# Altium footprint library Resistor.PcbLib: 19 footprints (part 1 of 2)
Each footprint in its own frame and in the unit in brackets; x right, y up, seen from the top. Pads: shape width x height; smd on the part's side, far side on the other; paste and mask are expansions set on the pad; w line width, h text height; cw(c..) or ccw(c..) is an arc to the next point about the centre after c.
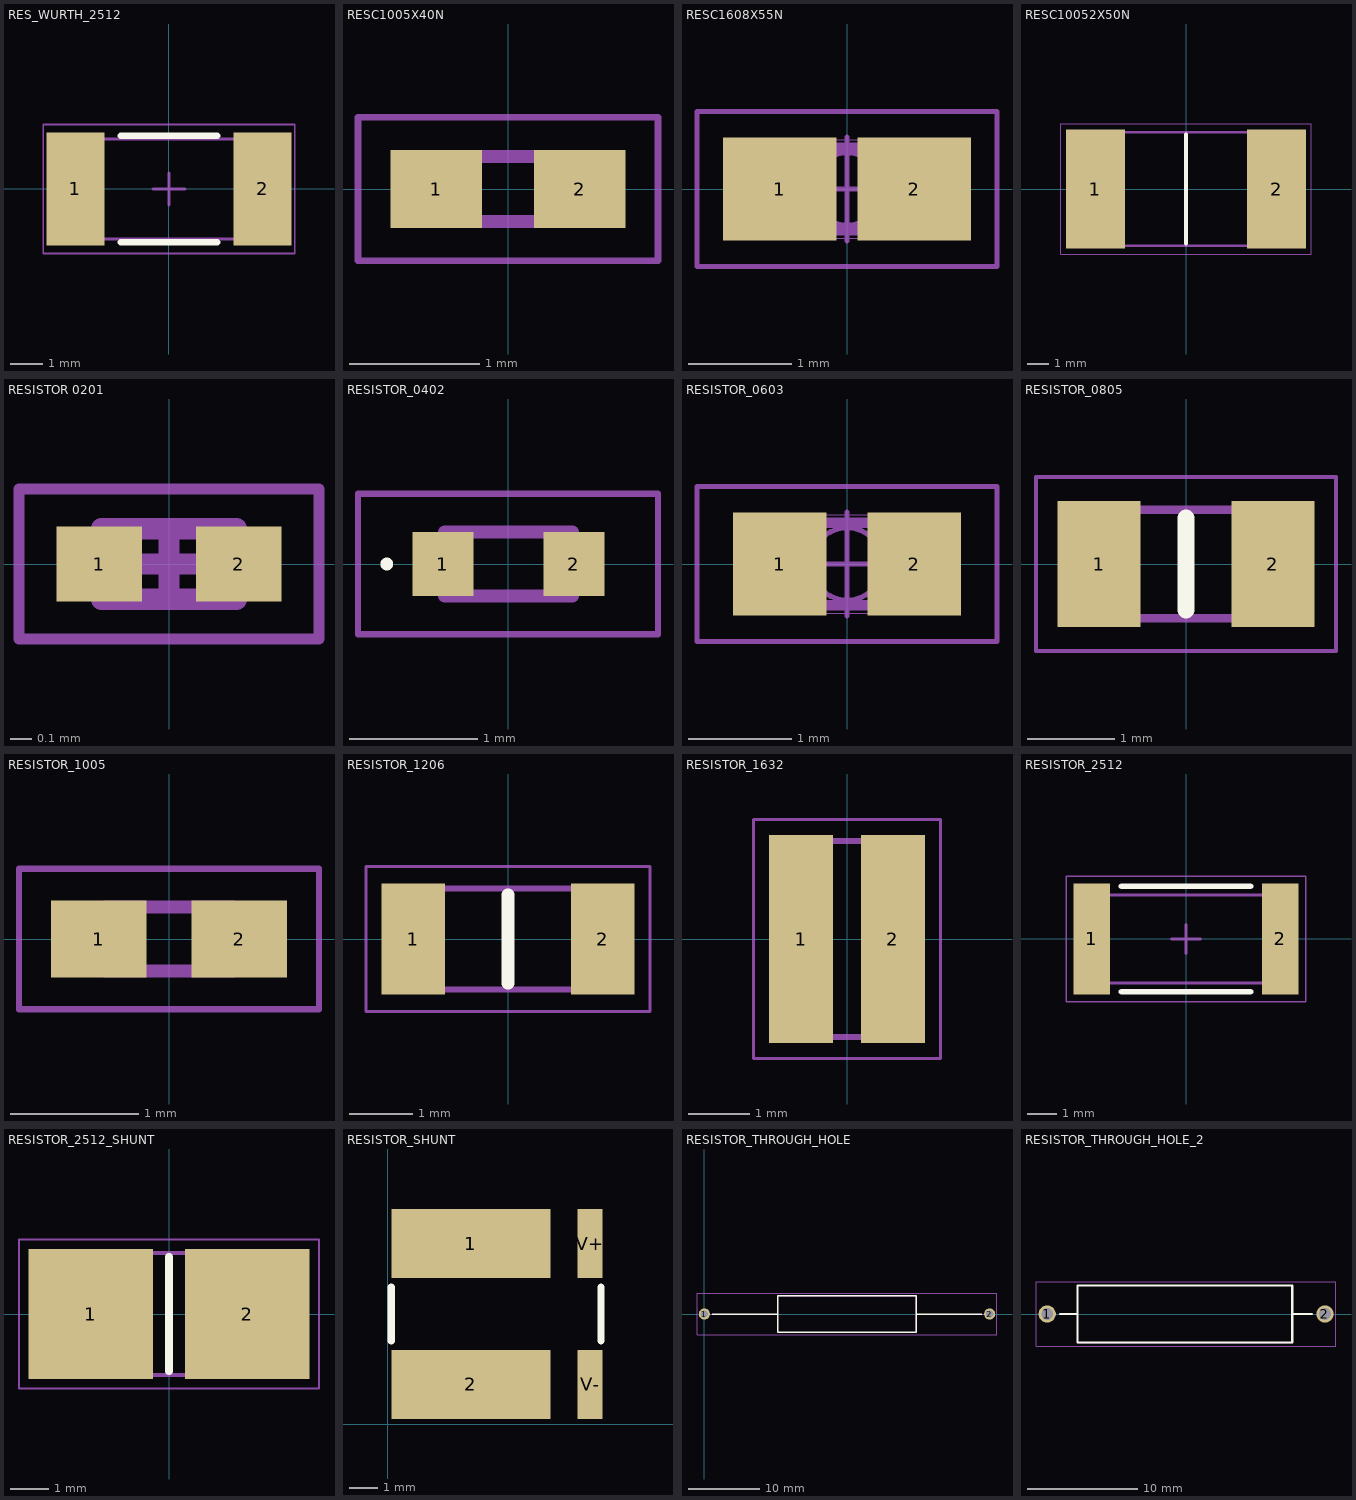
[diagram p0: the footprints below, top view; thin cyan lines are the x and y axes]

## RES_WURTH_2512 [mm] "Chip Resistor, 2-Leads, Body 6,30x3,10mm, IPC Medium Density"
height 0.5
pads (2):
  rect 1.8x3.5 smd: 1(-2.9,0) 2(2.9,0)
Top Overlay:
  lines w0.2: -1.5,-1.65 1.5,-1.65 ; -1.5,1.65 1.5,1.65
Mechanical 13:
  lines w0.1: -3.175,-1.55 3.175,-1.55 3.175,1.55 -3.175,1.55 -3.175,-1.55
Mechanical 15:
  lines w0.05: -3.9,-2 3.9,-2 3.9,2 -3.9,2 -3.9,-2
  lines w0.1: -0.5,0 0.5,0 ; 0,-0.5 0,0.5
3D body "STP_580070763010+%28rev1%29.stp": height 0.35, standoff 0, extent -3.15,-1.55 3.15,1.55

## RESC1005X40N [mm]
pads (2):
  rect 0.7x0.6 smd: 1(-0.55,0) 2(0.55,0)
Mechanical 13:
  lines w0.1: -0.5,-0.25 0.5,-0.25 0.5,0.25 -0.5,0.25 -0.5,-0.25
Mechanical 15:
  lines w0.05: -1.15,-0.55 1.15,-0.55 1.15,0.55 -1.15,0.55 -1.15,-0.55
3D body "CRCW0402100KFKEDHP.stp": height 0.4, standoff 0, extent -0.5,-0.25 0.5,0.25

## RESC1608X55N [mm]
pads (2):
  rect 1.1x1 smd: 1(-0.65,0) 2(0.65,0)
Mechanical 13:
  lines w0.1: -0.8,-0.4 -0.8,0.4 0.8,0.4 0.8,-0.4 -0.8,-0.4
Mechanical 15:
  circle w0.05: c0,0 r0.35
  lines w0.001: -0.85,-0.475 -0.85,0.475 0.85,0.475 0.85,-0.475 -0.85,-0.475
  lines w0.05: -0.5,0 0.5,0 ; 0,-0.5 0,0.5 ; -1.45,-0.75 -1.45,0.75 1.45,0.75 1.45,-0.75 -1.45,-0.75
3D body "RC0603FR-0730KL.stp": height 0.55, standoff 0, extent -0.8,-0.4 0.8,0.4

## RESC10052X50N [mm]
pads (2):
  rect 2.7x5.45 smd: 1(-4.15,0) 2(4.15,0)
Top Overlay:
  lines w0.2: 0,-2.5 0,2.5
Mechanical 13:
  lines w0.1: -5,-2.6 5,-2.6 5,2.6 -5,2.6 -5,-2.6
Mechanical 15:
  lines w0.05: -5.75,-3 5.75,-3 5.75,3 -5.75,3 -5.75,-3
3D body "WSLP3921L1000FEA.stp": height 1.19, standoff 0, extent -5,-2.6 5,2.6

## RESISTOR 0201 [mm] "Chip Resistor, 2-Leads, Body 0,60x0,30mm, IPC Medium Density"
height 0.26
pads (2):
  rect 0.4x0.35 smd: 1(-0.325,0) 2(0.325,0)
Mechanical 13:
  lines w0.1: -0.315,-0.165 0.315,-0.165 0.315,0.165 -0.315,0.165 -0.315,-0.165
Mechanical 15:
  lines w0.05: -0.7,-0.35 0.7,-0.35 0.7,0.35 -0.7,0.35 -0.7,-0.35
  lines w0.1: -0.165,0 0.165,0 ; 0,-0.165 0,0.165
3D body "RESC0603X03N.step": height 0.26, standoff 0, extent -0.315,-0.165 0.315,0.165

## RESISTOR_0402 [mm]
pads (2):
  rect 0.475x0.5 smd: 1(-0.512,0) 2(0.512,0)
Top Overlay:
  lines w0.05: -0.95,-0.025 cw(c-0.95,0) -0.95,0.025 cw(c-0.95,0) -0.95,-0.025
Mechanical 13:
  lines w0.1: -0.5,-0.25 0.5,-0.25 0.5,0.25 -0.5,0.25 -0.5,-0.25
Mechanical 15:
  lines w0.05: -1.175,-0.55 -1.175,0.55 1.168,0.55 1.168,-0.55 -1.175,-0.55
3D body "ERJ-2RKF3000X.stp": height 0.35, standoff 0, extent -0.5,-0.25 0.5,0.25

## RESISTOR_0603 [mm]
pads (2):
  rect 0.9x1 smd: 1(-0.65,0) 2(0.65,0)
Mechanical 13:
  lines w0.1: -0.8,-0.4 -0.8,0.4 0.8,0.4 0.8,-0.4 -0.8,-0.4
Mechanical 15:
  circle w0.05: c0,0 r0.35
  lines w0.001: -0.85,-0.475 -0.85,0.475 0.85,0.475 0.85,-0.475 -0.85,-0.475
  lines w0.05: -0.5,0 0.5,0 ; 0,-0.5 0,0.5 ; -1.45,-0.75 -1.45,0.75 1.45,0.75 1.45,-0.75 -1.45,-0.75
3D body "RC0603FR-0720KL.stp": height 0.55, standoff 0, extent -0.8,-0.4 0.8,0.4

## RESISTOR_0805 [mm]
pads (2):
  rect 0.95x1.45 smd: 1(-1,0) 2(1,0)
Top Overlay:
  lines w0.2: 0,-0.525 0,0.525
Mechanical 13:
  lines w0.1: -1.025,-0.625 -1.025,0.625 1.025,0.625 1.025,-0.625 -1.025,-0.625
Mechanical 15:
  lines w0.05: -1.725,-1 -1.725,1 1.725,1 1.725,-1 -1.725,-1
3D body "CRCW080547K0FKEA.stp": height 0.5, standoff 0, extent -1.025,-0.625 1.025,0.625

## RESISTOR_1005 [mm]
pads (2):
  rect 0.75x0.6 smd: 1(-0.55,0) 2(0.55,0)
Mechanical 13:
  lines w0.1: -0.5,-0.25 0.5,-0.25 0.5,0.25 -0.5,0.25 -0.5,-0.25
Mechanical 15:
  lines w0.05: -1.175,-0.55 1.175,-0.55 1.175,0.55 -1.175,0.55 -1.175,-0.55
3D body "CRCW0402215KFKED.stp": height 0.4, standoff 0, extent -0.5,-0.25 0.5,0.25

## RESISTOR_1206 [mm]
pads (2):
  rect 1x1.75 smd: 1(-1.5,0) 2(1.5,0)
Top Overlay:
  lines w0.2: 0,-0.7 0,0.7
Mechanical 13:
  lines w0.1: -1.55,-0.8 -1.55,0.8 1.55,0.8 1.55,-0.8 -1.55,-0.8
Mechanical 15:
  lines w0.05: -2.25,-1.15 -2.25,1.15 2.25,1.15 2.25,-1.15 -2.25,-1.15
3D body "RC1206FR-0775RL.stp": height 0.65, standoff 0, extent -1.55,-0.8 1.55,0.8

## RESISTOR_1632 [mm]
pads (2):
  rect 1.05x3.4 smd: 1(-0.75,0) 2(0.75,0)
Mechanical 13:
  lines w0.1: -0.8,-1.6 -0.8,1.6 0.8,1.6 0.8,-1.6 -0.8,-1.6
Mechanical 15:
  lines w0.05: -1.525,-1.95 -1.525,1.95 1.525,1.95 1.525,-1.95 -1.525,-1.95
3D body "PRL1632-R010-F-T1.stp": height 0.6, standoff 0, extent -0.8,-1.6 0.8,1.6

## RESISTOR_2512 [mm] "Criado para o resistor shunt LRMAP2512-R006FT4"
height 0.9
pads (2):
  rect 1.25x3.8 smd: 1(-3.225,0) 2(3.225,0)
Top Overlay:
  lines w0.2: -2.2,-1.8 2.2,-1.8 ; -2.2,1.8 2.2,1.8
Mechanical 13:
  lines w0.1: -3.1,-1.5 3.1,-1.5 3.1,1.5 -3.1,1.5 -3.1,-1.5
Mechanical 15:
  lines w0.05: -4.1,-2.15 4.1,-2.15 4.1,2.15 -4.1,2.15 -4.1,-2.15
  lines w0.1: -0.5,0 0.5,0 ; 0,-0.5 0,0.5
3D body "RESISTOR_2512.step": height 0.9, standoff 0, extent -3.1,-1.5 3.1,1.5

## RESISTOR_2512_SHUNT [mm]
pads (2):
  rect 3.25x3.4 smd: 1(-2.05,0) 2(2.05,0)
Top Overlay:
  lines w0.2: 0,-1.5 0,1.5
Mechanical 13:
  lines w0.1: -3.2,-1.6 -3.2,1.6 3.2,1.6 3.2,-1.6 -3.2,-1.6
Mechanical 15:
  lines w0.05: -3.925,-1.95 -3.925,1.95 3.925,1.95 3.925,-1.95 -3.925,-1.95
3D body "LRMAP2512-R007FT4.stp": height 0.9, standoff 0, extent -3.2,-1.6 3.2,1.6

## RESISTOR_SHUNT [mil]
pads (4):
  rect 220x96 smd: 1(115,250) 2(115,55)
  rect 35x96 smd: V+(280,250) V-(280,55)
Top Overlay:
  lines w10: 5,115 5,190 ; 295,115 295,190
3D body "WSLP2726 (0.001).step": height 105.43, standoff -0.08, extent 25.16,19.17 285,290.83

## RESISTOR_THROUGH_HOLE [mm]
pads (2):
  round 1.575 hole 1.05: 1(0,0) 2(40.3,0)
Top Overlay:
  lines w0.2: 1.138,0 10.4,0 ; 29.9,0 39.162,0 ; 10.4,-2.6 10.4,2.6 29.9,2.6 29.9,-2.6 10.4,-2.6
Mechanical 13:
  lines w0.1: 0,0 10.4,0 ; 29.9,0 40.3,0 ; 10.4,-2.6 10.4,2.6 29.9,2.6 29.9,-2.6 10.4,-2.6
Mechanical 15:
  lines w0.05: -1.038,-2.95 -1.038,2.95 41.337,2.95 41.337,-2.95 -1.038,-2.95
3D body "PR03000201000JAC00.stp": height 5.2, standoff 0, extent 0.316,-2.595 39.816,2.595

## RESISTOR_THROUGH_HOLE_2 [mm]
pads (2):
  round 1.575 hole 1.05: 1(7.645,0) 2(32.883,0)
Top Overlay:
  lines w0.2: 8.839,0 10.4,0 ; 29.9,0 31.674,0 ; 10.4,-2.6 29.9,-2.6 29.9,2.6 10.4,2.6 10.4,-2.6
Mechanical 13:
  lines w0.1: 8.788,0 10.4,0 ; 29.9,0 31.699,0 ; 10.4,-2.6 29.9,-2.6 29.9,2.6 10.4,2.6 10.4,-2.6
Mechanical 15:
  lines w0.05: 6.629,-2.95 33.884,-2.95 33.884,2.95 6.629,2.95 6.629,-2.95